# Altium footprint library CAPPM6032X280N.PcbLib: 1 footprints
Each footprint in its own frame and in the unit in brackets; x right, y up, seen from the top. Pads: shape width x height; smd on the part's side, far side on the other; paste and mask are expansions set on the pad; w line width, h text height; cw(c..) or ccw(c..) is an arc to the next point about the centre after c.
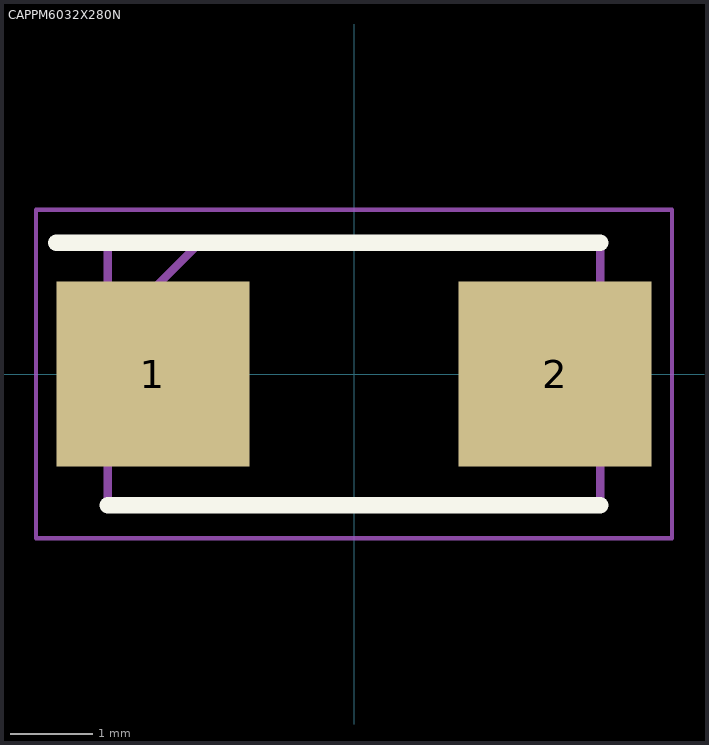
[diagram p0: the footprint, top view; thin cyan lines are the x and y axes]

## CAPPM6032X280N [mm]
pads (2):
  rect 2.35x2.25 smd: 1(-2.45,0) 2(2.45,0)
Top Overlay:
  lines w0.2: -3.625,1.6 3,1.6 ; -3,-1.6 3,-1.6
Mechanical 15:
  lines w0.1: -3,0.475 -1.875,1.6 ; -3,-1.6 3,-1.6 3,1.6 -3,1.6 -3,-1.6
Mechanical 20:
  lines w0.05: -3.875,-2 3.875,-2 3.875,2 -3.875,2 -3.875,-2